# Altium schematic symbol library MCU_NXP_MCore.SchLib: 1 symbol
Pins are listed as number, name and electrical type; pins without a type are passive.

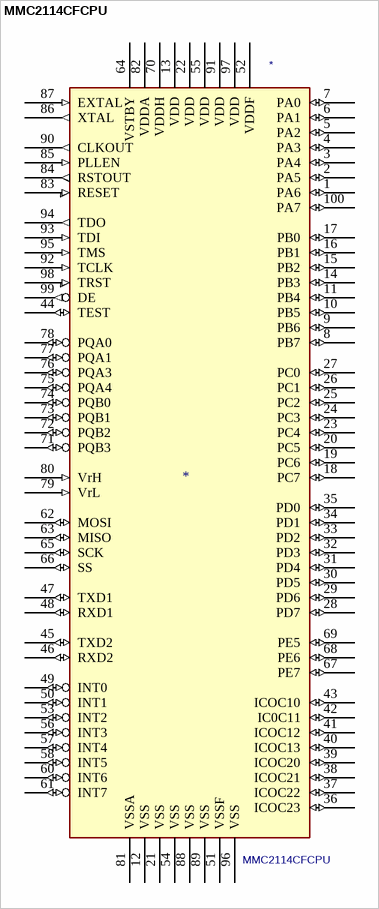
[diagram p0: symbol MMC2114CFCPU]

## MMC2114CFCPU
designator *  value MMC2114CFCPU
ki_description: Motorola M*CORE  upro 100 pins; Supplier: motorola/mmc2114.pdf
pins: 1 PA6 (io), 2 PA5 (io), 3 PA4 (io), 4 PA3 (io), 5 PA2 (io), 6 PA1 (io), 7 PA0 (io), 8 PB7 (io), 9 PB6 (io), 10 PB5 (io), 11 PB4 (io), 12 VSS (power), 13 VDD (power), 14 PB3 (io), 15 PB2 (io), 16 PB1 (io), 17 PB0 (io), 18 PC7 (io), 19 PC6 (io), 20 PC5 (io), 21 VSS (power), 22 VDD (power), 23 PC4 (io), 24 PC3 (io), 25 PC2 (io), 26 PC1 (io), 27 PC0 (io), 28 PD7 (io), 29 PD6 (io), 30 PD5 (io), 31 PD4 (io), 32 PD3 (io), 33 PD2 (io), 34 PD1 (io), 35 PD0 (io), 36 ICOC23 (io), 37 ICOC22 (io), 38 ICOC21 (io), 39 ICOC20 (io), 40 ICOC13 (io), 41 ICOC12 (io), 42 IC0C11 (io), 43 ICOC10 (io), 44 TEST (io), 45 TXD2 (io), 46 RXD2 (io), 47 TXD1 (io), 48 RXD1 (io), 49 INT0 (io), 50 INT1 (io), 51 VSSF (power), 52 VDDF (power), 53 INT2 (io), 54 VSS (power), 55 VDD (power), 56 INT3 (io), 57 INT4 (io), 58 INT5 (io), 60 INT6 (io), 61 INT7 (io), 62 MOSI (io), 63 MISO (io), 64 VSTBY (power), 65 SCK (io), 66 SS (io), 67 PE7 (io), 68 PE6 (io), 69 PE5 (io), 70 VDDH (power), 71 PQB3 (io), 72 PQB2 (io), 73 PQB1 (io), 74 PQB0 (io), 75 PQA4 (io), 76 PQA3 (io), 77 PQA1 (io), 78 PQA0 (io), 79 VrL (in), 80 VrH (in), 81 VSSA (power), 82 VDDA (power), 83 RESET (in), 84 RSTOUT (out), 85 PLLEN (in), 86 XTAL (out), 87 EXTAL (in), 88 VSS (power), 89 VSS (power), 90 CLKOUT (out), 91 VDD (power), 92 TCLK (in), 93 TDI (in), 94 TDO (out), 95 TMS (in), 96 VSS (power), 97 VDD (power), 98 TRST (in), 99 DE (out), 100 PA7 (io)